# EAGLE library part TPS62260DRV (library texas)
Step Down Converter 2.25 MHz 600 mA
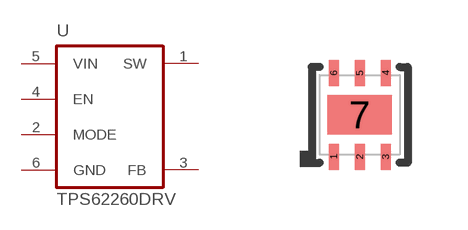
[diagram p57: symbol with the pads of WDFN-6; footprint WDFN-6]

Designator prefix U

## TPS62260DRV  [WDFN-6]
1  SW  out
2  MODE  in
3  FB  in
4  EN  in
5  VIN  in
6  GND  pwr

## Footprint WDFN-6 (pad centres in mm)
WDFN-6 6-WSON Exposed Pad (2x2)
smd 0.25 x 0.65: 1 -0.65,-1.05; 2 0,-1.05; 3 0.65,-1.05; 4 0.65,1.05; 5 0,1.05; 6 -0.65,1.05
smd 1.6 x 0.991: 7 0,0